# Altium footprint library micro-philips.PCBLIB: 60 footprints (part 4 of 5)
Each footprint in its own frame and in the unit in brackets; x right, y up, seen from the top. Pads: shape width x height; smd on the part's side, far side on the other; paste and mask are expansions set on the pad; w line width, h text height; cw(c..) or ccw(c..) is an arc to the next point about the centre after c.
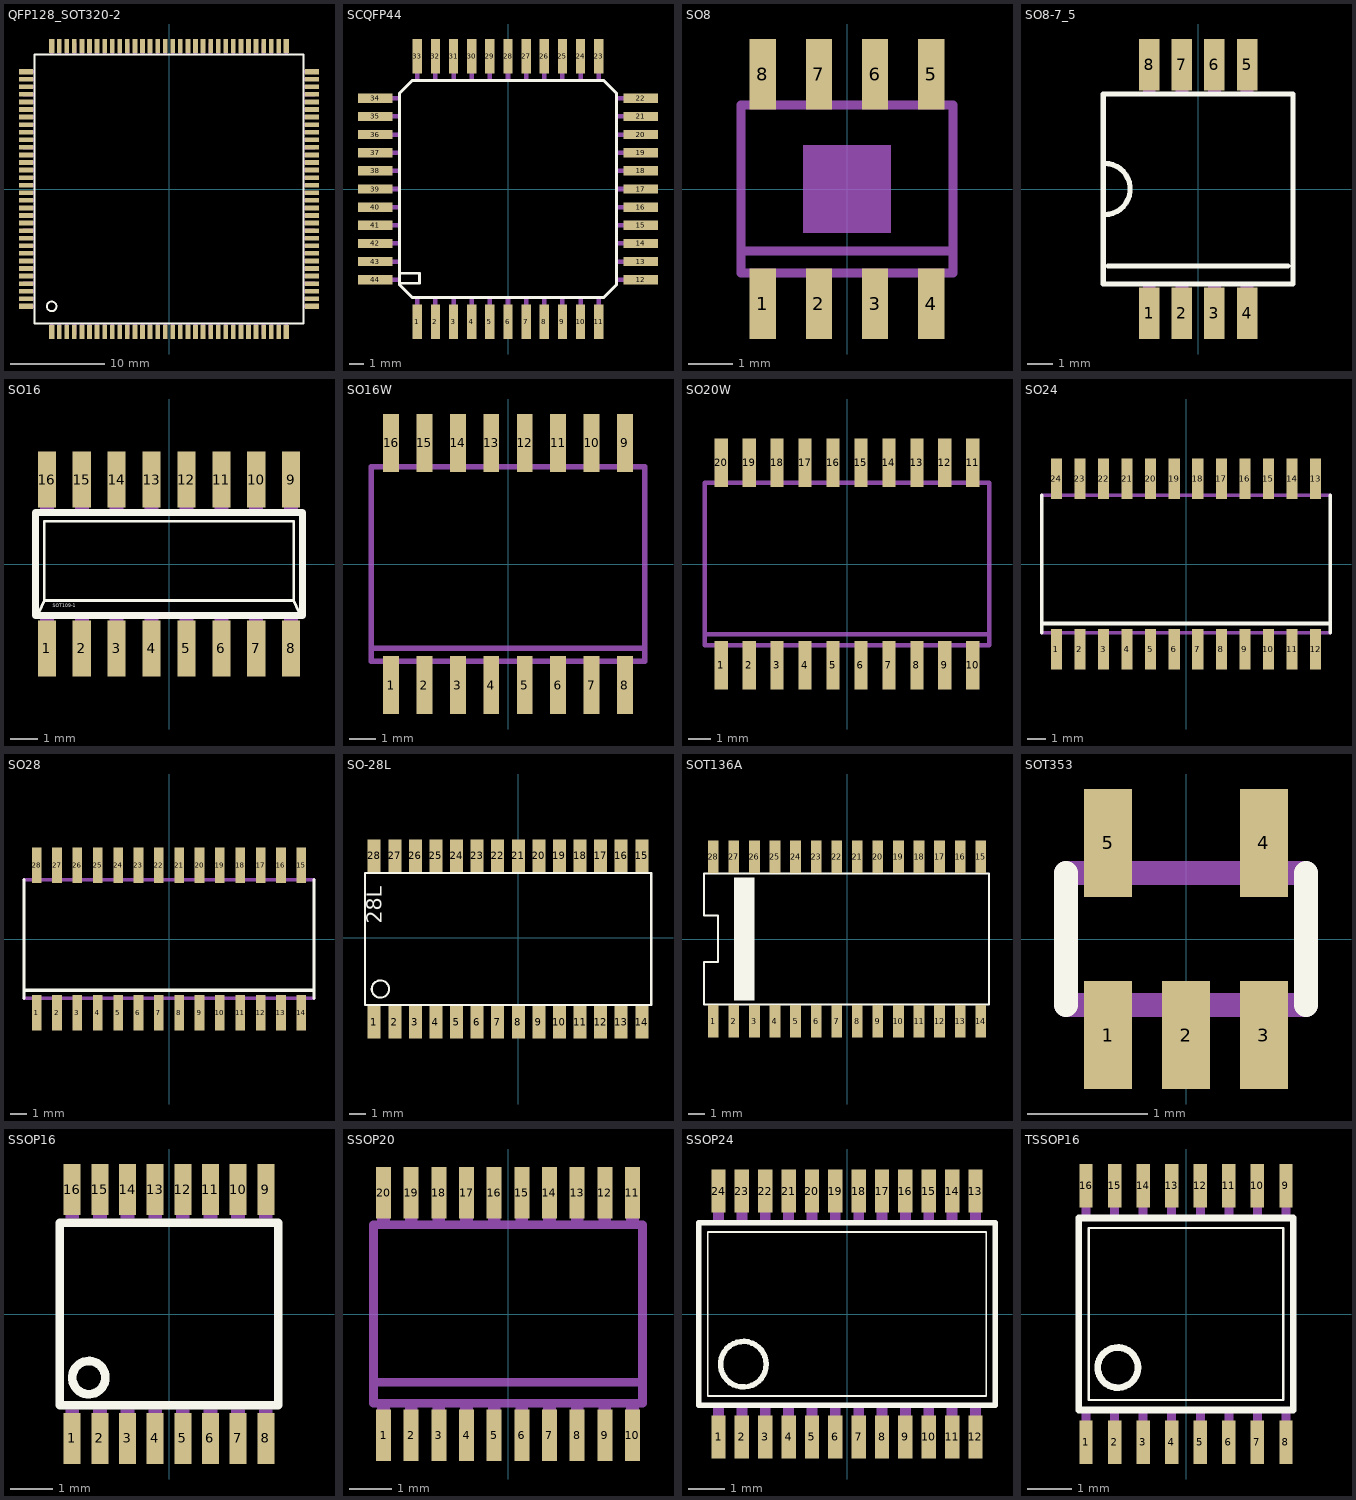
[diagram p3: the footprints below, top view; thin cyan lines are the x and y axes]

## QFP128_SOT320-2 [mm]
pads (128):
  rect 0.6x1.5 smd: 1(-12.4,-15.1) 32(12.4,-15.1) 65(12.4,15.1) 96(-12.4,15.1)
  rect 0.5x1.5 smd: 2(-11.6,-15.1) 3(-10.8,-15.1) 4(-10,-15.1) 5(-9.2,-15.1) 6(-8.4,-15.1) 7(-7.6,-15.1) 8(-6.8,-15.1) 9(-6,-15.1) 10(-5.2,-15.1) 11(-4.4,-15.1) 12(-3.6,-15.1) 13(-2.8,-15.1) 14(-2,-15.1) 15(-1.2,-15.1) 16(-0.4,-15.1) 17(0.4,-15.1) 18(1.2,-15.1) 19(2,-15.1) 20(2.8,-15.1) 21(3.6,-15.1) 22(4.4,-15.1) 23(5.2,-15.1) 24(6,-15.1) 25(6.8,-15.1) 26(7.6,-15.1) 27(8.4,-15.1) 28(9.2,-15.1) 29(10,-15.1) 30(10.8,-15.1) 31(11.6,-15.1) 66(11.6,15.1) 67(10.8,15.1) 68(10,15.1) 69(9.2,15.1) 70(8.4,15.1) 71(7.6,15.1) 72(6.8,15.1) 73(6,15.1) 74(5.2,15.1) 75(4.4,15.1) 76(3.6,15.1) 77(2.8,15.1) 78(2,15.1) 79(1.2,15.1) 80(0.4,15.1) 81(-0.4,15.1) 82(-1.2,15.1) 83(-2,15.1) 84(-2.8,15.1) 85(-3.6,15.1) 86(-4.4,15.1) 87(-5.2,15.1) 88(-6,15.1) 89(-6.8,15.1) 90(-7.6,15.1) 91(-8.4,15.1) 92(-9.2,15.1) 93(-10,15.1) 94(-10.8,15.1) 95(-11.6,15.1)
  rect 1.5x0.6 smd: 33(15.1,-12.4) 64(15.1,12.4) 97(-15.1,12.4) 128(-15.1,-12.4)
  rect 1.5x0.5 smd: 34(15.1,-11.6) 35(15.1,-10.8) 36(15.1,-10) 37(15.1,-9.2) 38(15.1,-8.4) 39(15.1,-7.6) 40(15.1,-6.8) 41(15.1,-6) 42(15.1,-5.2) 43(15.1,-4.4) 44(15.1,-3.6) 45(15.1,-2.8) 46(15.1,-2) 47(15.1,-1.2) 48(15.1,-0.4) 49(15.1,0.4) 50(15.1,1.2) 51(15.1,2) 52(15.1,2.8) 53(15.1,3.6) 54(15.1,4.4) 55(15.1,5.2) 56(15.1,6) 57(15.1,6.8) 58(15.1,7.6) 59(15.1,8.4) 60(15.1,9.2) 61(15.1,10) 62(15.1,10.8) 63(15.1,11.6) 98(-15.1,11.6) 99(-15.1,10.8) 100(-15.1,10) 101(-15.1,9.2) 102(-15.1,8.4) 103(-15.1,7.6) 104(-15.1,6.8) 105(-15.1,6) 106(-15.1,5.2) 107(-15.1,4.4) 108(-15.1,3.6) 109(-15.1,2.8) 110(-15.1,2) 111(-15.1,1.2) 112(-15.1,0.4) 113(-15.1,-0.4) 114(-15.1,-1.2) 115(-15.1,-2) 116(-15.1,-2.8) 117(-15.1,-3.6) 118(-15.1,-4.4) 119(-15.1,-5.2) 120(-15.1,-6) 121(-15.1,-6.8) 122(-15.1,-7.6) 123(-15.1,-8.4) 124(-15.1,-9.2) 125(-15.1,-10) 126(-15.1,-10.8) 127(-15.1,-11.6)
Top Overlay:
  circle w0.203: c-12.4,-12.4 r0.51
  lines w0.203: -14.2,-14.2 14.2,-14.2 14.2,14.2 -14.2,14.2 -14.2,-14.2
Mechanical 16:
  rectangle: -12.6,-15.45 -12.2,-14.25
  rectangle: -11.8,-15.45 -11.4,-14.25
  rectangle: -11,-15.45 -10.6,-14.25
  rectangle: -10.2,-15.45 -9.8,-14.25
  rectangle: -9.4,-15.45 -9,-14.25
  rectangle: -8.6,-15.45 -8.2,-14.25
  rectangle: -7.8,-15.45 -7.4,-14.25
  rectangle: -7,-15.45 -6.6,-14.25
  rectangle: -6.2,-15.45 -5.8,-14.25
  rectangle: -5.4,-15.45 -5,-14.25
  rectangle: -4.6,-15.45 -4.2,-14.25
  rectangle: -3.8,-15.45 -3.4,-14.25
  rectangle: -3,-15.45 -2.6,-14.25
  rectangle: -2.2,-15.45 -1.8,-14.25
  rectangle: -1.4,-15.45 -1,-14.25
  rectangle: -0.6,-15.45 -0.2,-14.25
  rectangle: 0.2,-15.45 0.6,-14.25
  rectangle: 1,-15.45 1.4,-14.25
  rectangle: 1.8,-15.45 2.2,-14.25
  rectangle: 2.6,-15.45 3,-14.25
  rectangle: 3.4,-15.45 3.8,-14.25
  rectangle: 4.2,-15.45 4.6,-14.25
  rectangle: 5,-15.45 5.4,-14.25
  rectangle: 5.8,-15.45 6.2,-14.25
  rectangle: 6.6,-15.45 7,-14.25
  rectangle: 7.4,-15.45 7.8,-14.25
  rectangle: 8.2,-15.45 8.6,-14.25
  rectangle: 9,-15.45 9.4,-14.25
  rectangle: 9.8,-15.45 10.2,-14.25
  rectangle: 10.6,-15.45 11,-14.25
  rectangle: 11.4,-15.45 11.8,-14.25
  rectangle: 12.2,-15.45 12.6,-14.25
  rectangle: 14.25,-12.6 15.45,-12.2
  rectangle: 14.25,-11.8 15.45,-11.4
  rectangle: 14.25,-11 15.45,-10.6
  rectangle: 14.25,-10.2 15.45,-9.8
  rectangle: 14.25,-9.4 15.45,-9
  rectangle: 14.25,-8.6 15.45,-8.2
  rectangle: 14.25,-7.8 15.45,-7.4
  rectangle: 14.25,-7 15.45,-6.6
  rectangle: 14.25,-6.2 15.45,-5.8
  rectangle: 14.25,-5.4 15.45,-5
  rectangle: 14.25,-4.6 15.45,-4.2
  rectangle: 14.25,-3.8 15.45,-3.4
  rectangle: 14.25,-3 15.45,-2.6
  rectangle: 14.25,-2.2 15.45,-1.8
  rectangle: 14.25,-1.4 15.45,-1
  rectangle: 14.25,-0.6 15.45,-0.2
  rectangle: 14.25,0.2 15.45,0.6
  rectangle: 14.25,1 15.45,1.4
  rectangle: 14.25,1.8 15.45,2.2
  rectangle: 14.25,2.6 15.45,3
  rectangle: 14.25,3.4 15.45,3.8
  rectangle: 14.25,4.2 15.45,4.6
  rectangle: 14.25,5 15.45,5.4
  rectangle: 14.25,5.8 15.45,6.2
  rectangle: 14.25,6.6 15.45,7
  rectangle: 14.25,7.4 15.45,7.8
  rectangle: 14.25,8.2 15.45,8.6
  rectangle: 14.25,9 15.45,9.4
  rectangle: 14.25,9.8 15.45,10.2
  rectangle: 14.25,10.6 15.45,11
  rectangle: 14.25,11.4 15.45,11.8
  rectangle: 14.25,12.2 15.45,12.6
  rectangle: 12.2,14.25 12.6,15.45
  rectangle: 11.4,14.25 11.8,15.45
  rectangle: 10.6,14.25 11,15.45
  rectangle: 9.8,14.25 10.2,15.45
  rectangle: 9,14.25 9.4,15.45
  rectangle: 8.2,14.25 8.6,15.45
  rectangle: 7.4,14.25 7.8,15.45
  rectangle: 6.6,14.25 7,15.45
  rectangle: 5.8,14.25 6.2,15.45
  rectangle: 5,14.25 5.4,15.45
  rectangle: 4.2,14.25 4.6,15.45
  rectangle: 3.4,14.25 3.8,15.45
  rectangle: 2.6,14.25 3,15.45
  rectangle: 1.8,14.25 2.2,15.45
  rectangle: 1,14.25 1.4,15.45
  rectangle: 0.2,14.25 0.6,15.45
  rectangle: -0.6,14.25 -0.2,15.45
  rectangle: -1.4,14.25 -1,15.45
  rectangle: -2.2,14.25 -1.8,15.45
  rectangle: -3,14.25 -2.6,15.45
  rectangle: -3.8,14.25 -3.4,15.45
  rectangle: -4.6,14.25 -4.2,15.45
  rectangle: -5.4,14.25 -5,15.45
  rectangle: -6.2,14.25 -5.8,15.45
  rectangle: -7,14.25 -6.6,15.45
  rectangle: -7.8,14.25 -7.4,15.45
  rectangle: -8.6,14.25 -8.2,15.45
  rectangle: -9.4,14.25 -9,15.45
  rectangle: -10.2,14.25 -9.8,15.45
  rectangle: -11,14.25 -10.6,15.45
  rectangle: -11.8,14.25 -11.4,15.45
  rectangle: -12.6,14.25 -12.2,15.45
  rectangle: -15.45,12.2 -14.25,12.6
  rectangle: -15.45,11.4 -14.25,11.8
  rectangle: -15.45,10.6 -14.25,11
  rectangle: -15.45,9.8 -14.25,10.2
  rectangle: -15.45,9 -14.25,9.4
  rectangle: -15.45,8.2 -14.25,8.6
  rectangle: -15.45,7.4 -14.25,7.8
  rectangle: -15.45,6.6 -14.25,7
  rectangle: -15.45,5.8 -14.25,6.2
  rectangle: -15.45,5 -14.25,5.4
  rectangle: -15.45,4.2 -14.25,4.6
  rectangle: -15.45,3.4 -14.25,3.8
  rectangle: -15.45,2.6 -14.25,3
  rectangle: -15.45,1.8 -14.25,2.2
  rectangle: -15.45,1 -14.25,1.4
  rectangle: -15.45,0.2 -14.25,0.6
  rectangle: -15.45,-0.6 -14.25,-0.2
  rectangle: -15.45,-1.4 -14.25,-1
  rectangle: -15.45,-2.2 -14.25,-1.8
  rectangle: -15.45,-3 -14.25,-2.6
  rectangle: -15.45,-3.8 -14.25,-3.4
  rectangle: -15.45,-4.6 -14.25,-4.2
  rectangle: -15.45,-5.4 -14.25,-5
  rectangle: -15.45,-6.2 -14.25,-5.8
  rectangle: -15.45,-7 -14.25,-6.6
  rectangle: -15.45,-7.8 -14.25,-7.4
  rectangle: -15.45,-8.6 -14.25,-8.2
  rectangle: -15.45,-9.4 -14.25,-9
  rectangle: -15.45,-10.2 -14.25,-9.8
  rectangle: -15.45,-11 -14.25,-10.6
  rectangle: -15.45,-11.8 -14.25,-11.4
  rectangle: -15.45,-12.6 -14.25,-12.2

## SCQFP44 [mm]
pads (44):
  rect 0.65x2.4 smd: 1(-6.35,-9.3) 2(-5.08,-9.3) 3(-3.81,-9.3) 4(-2.54,-9.3) 5(-1.27,-9.3) 6(0,-9.3) 7(1.27,-9.3) 8(2.54,-9.3) 9(3.81,-9.3) 10(5.08,-9.3) 11(6.35,-9.3) 23(6.35,9.3) 24(5.08,9.3) 25(3.81,9.3) 26(2.54,9.3) 27(1.27,9.3) 28(0,9.3) 29(-1.27,9.3) 30(-2.54,9.3) 31(-3.81,9.3) 32(-5.08,9.3) 33(-6.35,9.3)
  rect 2.4x0.65 smd: 12(9.3,-6.35) 13(9.3,-5.08) 14(9.3,-3.81) 15(9.3,-2.54) 16(9.3,-1.27) 17(9.3,0) 18(9.3,1.27) 19(9.3,2.54) 20(9.3,3.81) 21(9.3,5.08) 22(9.3,6.35) 34(-9.3,6.35) 35(-9.3,5.08) 36(-9.3,3.81) 37(-9.3,2.54) 38(-9.3,1.27) 39(-9.3,0) 40(-9.3,-1.27) 41(-9.3,-2.54) 42(-9.3,-3.81) 43(-9.3,-5.08) 44(-9.3,-6.35)
Top Overlay:
  lines w0.203: -7.5,-5.9 -6.2,-5.9 -6.2,-6.6 -7.6,-6.6 ; -7.6,-6.6 -7.6,6.7 -6.7,7.6 6.7,7.6 7.6,6.7 7.6,-6.7 6.7,-7.6 -6.7,-7.6 -7.6,-6.7 -7.6,-6.6
Mechanical 16:
  rectangle: -6.51,-10.1 -6.19,-7.6
  rectangle: -5.24,-10.1 -4.92,-7.6
  rectangle: -3.97,-10.1 -3.65,-7.6
  rectangle: -2.7,-10.1 -2.38,-7.6
  rectangle: -1.43,-10.1 -1.11,-7.6
  rectangle: -0.16,-10.1 0.16,-7.6
  rectangle: 1.11,-10.1 1.43,-7.6
  rectangle: 2.38,-10.1 2.7,-7.6
  rectangle: 3.65,-10.1 3.97,-7.6
  rectangle: 4.92,-10.1 5.24,-7.6
  rectangle: 6.19,-10.1 6.51,-7.6
  rectangle: 7.6,-6.51 10.1,-6.19
  rectangle: 7.6,-5.24 10.1,-4.92
  rectangle: 7.6,-3.97 10.1,-3.65
  rectangle: 7.6,-2.7 10.1,-2.38
  rectangle: 7.6,-1.43 10.1,-1.11
  rectangle: 7.6,-0.16 10.1,0.16
  rectangle: 7.6,1.11 10.1,1.43
  rectangle: 7.6,2.38 10.1,2.7
  rectangle: 7.6,3.65 10.1,3.97
  rectangle: 7.6,4.92 10.1,5.24
  rectangle: 7.6,6.19 10.1,6.51
  rectangle: 6.19,7.6 6.51,10.1
  rectangle: 4.92,7.6 5.24,10.1
  rectangle: 3.65,7.6 3.97,10.1
  rectangle: 2.38,7.6 2.7,10.1
  rectangle: 1.11,7.6 1.43,10.1
  rectangle: -0.16,7.6 0.16,10.1
  rectangle: -1.43,7.6 -1.11,10.1
  rectangle: -2.7,7.6 -2.38,10.1
  rectangle: -3.97,7.6 -3.65,10.1
  rectangle: -5.24,7.6 -4.92,10.1
  rectangle: -6.51,7.6 -6.19,10.1
  rectangle: -10.1,6.19 -7.6,6.51
  rectangle: -10.1,4.92 -7.6,5.24
  rectangle: -10.1,3.65 -7.6,3.97
  rectangle: -10.1,2.38 -7.6,2.7
  rectangle: -10.1,1.11 -7.6,1.43
  rectangle: -10.1,-0.16 -7.6,0.16
  rectangle: -10.1,-1.43 -7.6,-1.11
  rectangle: -10.1,-2.7 -7.6,-2.38
  rectangle: -10.1,-3.97 -7.6,-3.65
  rectangle: -10.1,-5.24 -7.6,-4.92
  rectangle: -10.1,-6.51 -7.6,-6.19

## SO8 [mm]
pads (8):
  rect 0.6x1.6 smd: 1(-1.905,-2.6) 2(-0.635,-2.6) 3(0.635,-2.6) 4(1.905,-2.6) 5(1.905,2.6) 6(0.635,2.6) 7(-0.635,2.6) 8(-1.905,2.6)
Mechanical 6:
  rectangle: -1,-1 1,1
Mechanical 16:
  rectangle: -2.15,-3.1 -1.66,-2
  rectangle: -0.88,-3.1 -0.39,-2
  rectangle: 0.39,-3.1 0.88,-2
  rectangle: 1.66,-3.1 2.15,-2
  rectangle: 1.66,2 2.15,3.1
  rectangle: 0.39,2 0.88,3.1
  rectangle: -0.88,2 -0.39,3.1
  rectangle: -2.15,2 -1.66,3.1
  lines w0.203: -2.4,-1.4 -2.4,-1.9 2.4,-1.9 2.4,-1.4 ; -2.4,-1.4 -2.4,1.9 2.4,1.9 2.4,-1.4 ; -2.4,-1.4 2.4,-1.4

## SO8-7_5 [mm]
pads (8):
  rect 0.8x2 smd: 1(-1.905,-4.845) 2(-0.635,-4.845) 3(0.635,-4.845) 4(1.905,-4.845) 5(1.905,4.845) 6(0.635,4.845) 7(-0.635,4.845) 8(-1.905,4.845)
Top Overlay:
  lines w0.203: -3.648,-1 ccw(c-3.648,0) -3.648,1 ; -3.5,-3 3.5,-3 ; -3.7,-3.7 3.7,-3.7 3.7,3.7 -3.7,3.7 -3.7,-3.7
Mechanical 16:
  rectangle: -2.155,-5.3 -1.655,-3.75
  rectangle: -0.885,-5.3 -0.385,-3.75
  rectangle: 0.385,-5.3 0.885,-3.75
  rectangle: 1.655,-5.3 2.155,-3.75
  rectangle: 1.655,3.75 2.155,5.3
  rectangle: 0.385,3.75 0.885,5.3
  rectangle: -0.885,3.75 -0.385,5.3
  rectangle: -2.155,3.75 -1.655,5.3

## SO16 [mil]
pads (16):
  rect 26x80 smd: 1(-175,-121) 2(-125,-121) 3(-75,-121) 4(-25,-121) 5(25,-121) 6(75,-121) 7(125,-121) 8(175,-121) 9(175,121) 10(125,121) 11(75,121) 12(25,121) 13(-25,121) 14(-75,121) 15(-125,121) 16(-175,121)
Top Overlay:
  lines w4: -186.25,-68.75 -178.75,-52.5 ; 186.25,-68.75 178.75,-52.5 ; -178.75,-52.5 -178.75,61.25 178.75,61.25 178.75,-52.5 ; -178.75,-52.5 178.75,-52.5
  lines w10: -191.25,-73.75 191.25,-73.75 191.25,73.75 -191.25,73.75 -191.25,-73.75
  text "SOT109-1" at -166.34,-63.98 h7.75
Mechanical 16:
  rectangle: -35,77 -15,122
  rectangle: -185,-122 -165,-77
  rectangle: -135,-122 -115,-77
  rectangle: -85,-121 -65,-76
  rectangle: -35,-122 -15,-77
  rectangle: -85,77 -65,122
  rectangle: -135,77 -115,122
  rectangle: -185,77 -165,122
  rectangle: 15,-122 35,-77
  rectangle: 65,-122 85,-77
  rectangle: 115,-122 135,-77
  rectangle: 165,-122 185,-77
  rectangle: 15,77 35,122
  rectangle: 65,77 85,122
  rectangle: 115,77 135,122
  rectangle: 165,77 185,122

## SO16W [mm]
pads (16):
  rect 0.6x2.2 smd: 1(-4.445,-4.6) 2(-3.175,-4.6) 3(-1.905,-4.6) 4(-0.635,-4.6) 5(0.635,-4.6) 6(1.905,-4.6) 7(3.175,-4.6) 8(4.445,-4.6) 9(4.445,4.6) 10(3.175,4.6) 11(1.905,4.6) 12(0.635,4.6) 13(-0.635,4.6) 14(-1.905,4.6) 15(-3.175,4.6) 16(-4.445,4.6)
Mechanical 16:
  rectangle: -4.69,-5.32 -4.2,-3.8
  rectangle: -3.42,-5.32 -2.93,-3.8
  rectangle: -2.15,-5.32 -1.66,-3.8
  rectangle: -0.88,-5.32 -0.39,-3.8
  rectangle: 0.39,-5.32 0.88,-3.8
  rectangle: 1.66,-5.32 2.15,-3.8
  rectangle: 2.93,-5.32 3.42,-3.8
  rectangle: 4.2,-5.32 4.69,-3.8
  rectangle: 4.2,3.8 4.69,5.32
  rectangle: 2.93,3.8 3.42,5.32
  rectangle: 1.66,3.8 2.15,5.32
  rectangle: 0.39,3.8 0.88,5.32
  rectangle: -0.88,3.8 -0.39,5.32
  rectangle: -2.15,3.8 -1.66,5.32
  rectangle: -3.42,3.8 -2.93,5.32
  rectangle: -4.69,3.8 -4.2,5.32
  lines w0.203: -5.19,-3.2 -5.19,-3.7 5.19,-3.7 5.19,-3.2 ; -5.19,-3.2 -5.19,3.7 5.19,3.7 5.19,-3.2 ; -5.19,-3.2 5.19,-3.2

## SO20W [mm]
pads (20):
  rect 0.6x2.2 smd: 1(-5.715,-4.6) 2(-4.445,-4.6) 3(-3.175,-4.6) 4(-1.905,-4.6) 5(-0.635,-4.6) 6(0.635,-4.6) 7(1.905,-4.6) 8(3.175,-4.6) 9(4.445,-4.6) 10(5.715,-4.6) 11(5.715,4.6) 12(4.445,4.6) 13(3.175,4.6) 14(1.905,4.6) 15(0.635,4.6) 16(-0.635,4.6) 17(-1.905,4.6) 18(-3.175,4.6) 19(-4.445,4.6) 20(-5.715,4.6)
Mechanical 16:
  rectangle: -5.96,-5.32 -5.47,-3.8
  rectangle: -4.69,-5.32 -4.2,-3.8
  rectangle: -3.42,-5.32 -2.93,-3.8
  rectangle: -2.15,-5.32 -1.66,-3.8
  rectangle: -0.88,-5.32 -0.39,-3.8
  rectangle: 0.39,-5.32 0.88,-3.8
  rectangle: 1.66,-5.32 2.15,-3.8
  rectangle: 2.93,-5.32 3.42,-3.8
  rectangle: 4.2,-5.32 4.69,-3.8
  rectangle: 5.47,-5.32 5.96,-3.8
  rectangle: 5.47,3.8 5.96,5.32
  rectangle: 4.2,3.8 4.69,5.32
  rectangle: 2.93,3.8 3.42,5.32
  rectangle: 1.66,3.8 2.15,5.32
  rectangle: 0.39,3.8 0.88,5.32
  rectangle: -0.88,3.8 -0.39,5.32
  rectangle: -2.15,3.8 -1.66,5.32
  rectangle: -3.42,3.8 -2.93,5.32
  rectangle: -4.69,3.8 -4.2,5.32
  rectangle: -5.96,3.8 -5.47,5.32
  lines w0.203: -6.46,-3.2 -6.46,-3.7 6.46,-3.7 6.46,-3.2 ; -6.46,-3.2 -6.46,3.7 6.46,3.7 6.46,-3.2 ; -6.46,-3.2 6.46,-3.2

## SO24 [mm]
pads (24):
  rect 0.6x2.2 smd: 1(-6.985,-4.6) 2(-5.715,-4.6) 3(-4.445,-4.6) 4(-3.175,-4.6) 5(-1.905,-4.6) 6(-0.635,-4.6) 7(0.635,-4.6) 8(1.905,-4.6) 9(3.175,-4.6) 10(4.445,-4.6) 11(5.715,-4.6) 12(6.985,-4.6) 13(6.985,4.6) 14(5.715,4.6) 15(4.445,4.6) 16(3.175,4.6) 17(1.905,4.6) 18(0.635,4.6) 19(-0.635,4.6) 20(-1.905,4.6) 21(-3.175,4.6) 22(-4.445,4.6) 23(-5.715,4.6) 24(-6.985,4.6)
Top Overlay:
  lines w0.203: -7.78,-3.7 -7.78,-3.2 ; -7.78,3.7 -7.78,-3.2 ; 7.78,-3.7 7.78,-3.2 ; 7.78,3.7 7.78,-3.2 ; -7.78,-3.2 7.78,-3.2
Mechanical 16:
  rectangle: -7.23,-5.32 -6.74,-3.8
  rectangle: -5.96,-5.32 -5.47,-3.8
  rectangle: -4.69,-5.32 -4.2,-3.8
  rectangle: -3.42,-5.32 -2.93,-3.8
  rectangle: -2.15,-5.32 -1.66,-3.8
  rectangle: -0.88,-5.32 -0.39,-3.8
  rectangle: 0.39,-5.32 0.88,-3.8
  rectangle: 1.66,-5.32 2.15,-3.8
  rectangle: 2.93,-5.32 3.42,-3.8
  rectangle: 4.2,-5.32 4.69,-3.8
  rectangle: 5.47,-5.32 5.96,-3.8
  rectangle: 6.74,-5.32 7.23,-3.8
  rectangle: 6.74,3.8 7.23,5.32
  rectangle: 5.47,3.8 5.96,5.32
  rectangle: 4.2,3.8 4.69,5.32
  rectangle: 2.93,3.8 3.42,5.32
  rectangle: 1.66,3.8 2.15,5.32
  rectangle: 0.39,3.8 0.88,5.32
  rectangle: -0.88,3.8 -0.39,5.32
  rectangle: -2.15,3.8 -1.66,5.32
  rectangle: -3.42,3.8 -2.93,5.32
  rectangle: -4.69,3.8 -4.2,5.32
  rectangle: -5.96,3.8 -5.47,5.32
  rectangle: -7.23,3.8 -6.74,5.32
  lines w0.203: -7.78,-3.7 7.78,-3.7 ; -7.78,3.7 7.78,3.7

## SO28 [mm]
pads (28):
  rect 0.6x2.2 smd: 1(-8.255,-4.6) 2(-6.985,-4.6) 3(-5.715,-4.6) 4(-4.445,-4.6) 5(-3.175,-4.6) 6(-1.905,-4.6) 7(-0.635,-4.6) 8(0.635,-4.6) 9(1.905,-4.6) 10(3.175,-4.6) 11(4.445,-4.6) 12(5.715,-4.6) 13(6.985,-4.6) 14(8.255,-4.6) 15(8.255,4.6) 16(6.985,4.6) 17(5.715,4.6) 18(4.445,4.6) 19(3.175,4.6) 20(1.905,4.6) 21(0.635,4.6) 22(-0.635,4.6) 23(-1.905,4.6) 24(-3.175,4.6) 25(-4.445,4.6) 26(-5.715,4.6) 27(-6.985,4.6) 28(-8.255,4.6)
Top Overlay:
  lines w0.203: -9.05,-3.7 -9.05,-3.2 ; -9.05,3.7 -9.05,-3.2 ; 9.05,-3.7 9.05,-3.2 ; 9.05,3.7 9.05,-3.2 ; -9.05,-3.2 9.05,-3.2
Mechanical 16:
  rectangle: -8.5,-5.32 -8.01,-3.8
  rectangle: -7.23,-5.32 -6.74,-3.8
  rectangle: -5.96,-5.32 -5.47,-3.8
  rectangle: -4.69,-5.32 -4.2,-3.8
  rectangle: -3.42,-5.32 -2.93,-3.8
  rectangle: -2.15,-5.32 -1.66,-3.8
  rectangle: -0.88,-5.32 -0.39,-3.8
  rectangle: 0.39,-5.32 0.88,-3.8
  rectangle: 1.66,-5.32 2.15,-3.8
  rectangle: 2.93,-5.32 3.42,-3.8
  rectangle: 4.2,-5.32 4.69,-3.8
  rectangle: 5.47,-5.32 5.96,-3.8
  rectangle: 6.74,-5.32 7.23,-3.8
  rectangle: 8.01,-5.32 8.5,-3.8
  rectangle: 8.01,3.8 8.5,5.32
  rectangle: 6.74,3.8 7.23,5.32
  rectangle: 5.47,3.8 5.96,5.32
  rectangle: 4.2,3.8 4.69,5.32
  rectangle: 2.93,3.8 3.42,5.32
  rectangle: 1.66,3.8 2.15,5.32
  rectangle: 0.39,3.8 0.88,5.32
  rectangle: -0.88,3.8 -0.39,5.32
  rectangle: -2.15,3.8 -1.66,5.32
  rectangle: -3.42,3.8 -2.93,5.32
  rectangle: -4.69,3.8 -4.2,5.32
  rectangle: -5.96,3.8 -5.47,5.32
  rectangle: -7.23,3.8 -6.74,5.32
  rectangle: -8.5,3.8 -8.01,5.32
  lines w0.203: -9.05,-3.7 9.05,-3.7 ; -9.05,3.7 9.05,3.7

## SO-28L [mil]
pads (28):
  rect 31.5x78.74 smd: 1(-350,-205) 2(-300,-205) 3(-250,-205) 4(-200,-205) 5(-150,-205) 6(-100,-205) 7(-50,-205) 8(0,-205) 9(50,-205) 10(100,-205) 11(150,-205) 12(200,-205) 13(250,-205) 14(300,-205) 15(300,200) 16(250,200) 17(200,200) 18(150,200) 19(100,200) 20(50,200) 21(0,200) 22(-50,200) 23(-100,200) 24(-150,200) 25(-200,200) 26(-250,200) 27(-300,200) 28(-350,200)
Top Overlay:
  circle w5: c-335,-124 r21
  lines w5: -372,-163 323,-163 323,158 -372,158 -372,-163
  text "28L" at -320,35 h62
Mechanical 16:
  rectangle: -360,-224 -340,-164
  rectangle: -310,-224 -290,-164
  rectangle: -260,-224 -240,-164
  rectangle: -210,-224 -190,-164
  rectangle: -160,-224 -140,-164
  rectangle: -110,-224 -90,-164
  rectangle: -60,-224 -40,-164
  rectangle: -10,-224 10,-164
  rectangle: 40,-224 60,-164
  rectangle: 90,-224 110,-164
  rectangle: 140,-224 160,-164
  rectangle: 190,-224 210,-164
  rectangle: 240,-224 260,-164
  rectangle: 290,-224 310,-164
  rectangle: 290,159 310,219
  rectangle: 240,159 260,219
  rectangle: 190,159 210,219
  rectangle: 140,159 160,219
  rectangle: 90,159 110,219
  rectangle: 40,159 60,219
  rectangle: -10,159 10,219
  rectangle: -60,159 -40,219
  rectangle: -110,159 -90,219
  rectangle: -160,159 -140,219
  rectangle: -210,159 -190,219
  rectangle: -260,159 -240,219
  rectangle: -310,159 -290,219
  rectangle: -360,159 -340,219

## SOT136A [mil]
pads (28):
  rect 26x79 smd: 1(-325,-200) 2(-275,-200) 3(-225,-200) 4(-175,-200) 5(-125,-200) 6(-75,-200) 7(-25,-200) 8(25,-200) 9(75,-200) 10(125,-200) 11(175,-200) 12(225,-200) 13(275,-200) 14(325,-200) 15(325,200) 16(275,200) 17(225,200) 18(175,200) 19(125,200) 20(75,200) 21(25,200) 22(-25,200) 23(-75,200) 24(-125,200) 25(-175,200) 26(-225,200) 27(-275,200) 28(-325,200)
Top Overlay:
  rectangle: -335,-220 -315,-160
  rectangle: -285,-220 -265,-160
  rectangle: -235,-220 -215,-160
  rectangle: -185,-220 -165,-160
  rectangle: -135,-220 -115,-160
  rectangle: -85,-220 -65,-160
  rectangle: -35,-220 -15,-160
  rectangle: 15,-220 35,-160
  rectangle: 65,-220 85,-160
  rectangle: 115,-220 135,-160
  rectangle: 165,-220 185,-160
  rectangle: 215,-220 235,-160
  rectangle: 265,-220 285,-160
  rectangle: 315,-220 335,-160
  rectangle: 315,160 335,220
  rectangle: 265,160 285,220
  rectangle: 215,160 235,220
  rectangle: 165,160 185,220
  rectangle: 115,160 135,220
  rectangle: 65,160 85,220
  rectangle: 15,160 35,220
  rectangle: -35,160 -15,220
  rectangle: -85,160 -65,220
  rectangle: -135,160 -115,220
  rectangle: -185,160 -165,220
  rectangle: -235,160 -215,220
  rectangle: -285,160 -265,220
  rectangle: -335,160 -315,220
  rectangle: -275,-150 -225,150
  lines w5: -347,-159 345,-159 345,159 -347,159 -347,57 -313,57 -313,-56 -347,-56 -347,-159

## SOT353 [mil]
pads (5):
  rect 15.75x35.43 smd: 1(-25.59,-31.5) 2(0,-31.5) 3(25.59,-31.5) 4(25.59,31.5) 5(-25.59,31.5)
Top Overlay:
  lines w8: -39.37,-21.65 -39.37,21.65 ; 39.37,-21.65 39.37,21.65
Mechanical 16:
  rectangle: -5.91,-43.31 5.91,-25.59
  rectangle: -31.5,-43.31 -19.69,-25.59
  rectangle: 19.69,-43.31 31.5,-25.59
  rectangle: 19.69,25.59 31.5,43.31
  rectangle: -31.5,25.59 -19.69,43.31
  lines w8: -39.37,-21.65 39.37,-21.65 ; -39.37,21.65 39.37,21.65

## SSOP16 [mm]
pads (16):
  rect 0.4x1.2 smd: 1(-2.275,-2.925) 2(-1.625,-2.925) 3(-0.975,-2.925) 4(-0.325,-2.925) 5(0.325,-2.925) 6(0.975,-2.925) 7(1.625,-2.925) 8(2.275,-2.925) 9(2.275,2.925) 10(1.625,2.925) 11(0.975,2.925) 12(0.325,2.925) 13(-0.325,2.925) 14(-0.975,2.925) 15(-1.625,2.925) 16(-2.275,2.925)
Top Overlay:
  circle w0.203: c-1.885,-1.495 r0.39
  lines w0.203: -2.568,-2.145 2.568,-2.145 2.568,2.145 -2.568,2.145 -2.568,-2.145
Mechanical 16:
  rectangle: -2.437,-3.315 -2.113,-2.243
  rectangle: -1.787,-3.315 -1.463,-2.243
  rectangle: -1.137,-3.315 -0.813,-2.243
  rectangle: -0.487,-3.315 -0.163,-2.243
  rectangle: 0.163,-3.315 0.487,-2.243
  rectangle: 0.813,-3.315 1.137,-2.243
  rectangle: 1.463,-3.315 1.787,-2.243
  rectangle: 2.113,-3.315 2.437,-2.243
  rectangle: 2.113,2.243 2.437,3.315
  rectangle: 1.463,2.243 1.787,3.315
  rectangle: 0.813,2.243 1.137,3.315
  rectangle: 0.163,2.243 0.487,3.315
  rectangle: -0.487,2.243 -0.163,3.315
  rectangle: -1.137,2.243 -0.813,3.315
  rectangle: -1.787,2.243 -1.463,3.315
  rectangle: -2.437,2.243 -2.113,3.315

## SSOP20 [mm]
pads (20):
  rect 0.35x1.2 smd: 1(-2.925,-2.85) 2(-2.275,-2.85) 3(-1.625,-2.85) 4(-0.975,-2.85) 5(-0.325,-2.85) 6(0.325,-2.85) 7(0.975,-2.85) 8(1.625,-2.85) 9(2.275,-2.85) 10(2.925,-2.85) 11(2.925,2.85) 12(2.275,2.85) 13(1.625,2.85) 14(0.975,2.85) 15(0.325,2.85) 16(-0.325,2.85) 17(-0.975,2.85) 18(-1.625,2.85) 19(-2.275,2.85) 20(-2.925,2.85)
Mechanical 16:
  rectangle: -3.075,-3.3 -2.775,-2.2
  rectangle: -2.425,-3.3 -2.125,-2.2
  rectangle: -1.775,-3.3 -1.475,-2.2
  rectangle: -1.125,-3.3 -0.825,-2.2
  rectangle: -0.475,-3.3 -0.175,-2.2
  rectangle: 0.175,-3.3 0.475,-2.2
  rectangle: 0.825,-3.3 1.125,-2.2
  rectangle: 1.475,-3.3 1.775,-2.2
  rectangle: 2.125,-3.3 2.425,-2.2
  rectangle: 2.775,-3.3 3.075,-2.2
  region: 3.075,3.3 2.775,3.3 2.775,2.2 3.075,2.2
  region: 2.425,3.3 2.125,3.3 2.125,2.2 2.425,2.2
  region: 1.775,3.3 1.475,3.3 1.475,2.2 1.775,2.2
  region: 1.125,3.3 0.825,3.3 0.825,2.2 1.125,2.2
  region: 0.475,3.3 0.175,3.3 0.175,2.2 0.475,2.2
  region: -0.175,3.3 -0.475,3.3 -0.475,2.2 -0.175,2.2
  region: -0.825,3.3 -1.125,3.3 -1.125,2.2 -0.825,2.2
  region: -1.475,3.3 -1.775,3.3 -1.775,2.2 -1.475,2.2
  region: -2.125,3.3 -2.425,3.3 -2.425,2.2 -2.125,2.2
  region: -2.775,3.3 -3.075,3.3 -3.075,2.2 -2.775,2.2
  lines w0.203: -3.16,-1.6 -3.16,-2.1 3.16,-2.1 3.16,-1.6 ; -3.16,-1.6 -3.16,2.1 3.16,2.1 3.16,-1.6 ; -3.16,-1.6 3.16,-1.6

## SSOP24 [mm]
pads (24):
  rect 0.4x1.2 smd: 1(-3.575,-3.42) 2(-2.925,-3.42) 3(-2.275,-3.42) 4(-1.625,-3.42) 5(-0.975,-3.42) 6(-0.325,-3.42) 7(0.325,-3.42) 8(0.975,-3.42) 9(1.625,-3.42) 10(2.275,-3.42) 11(2.925,-3.42) 12(3.575,-3.42) 13(3.575,3.42) 14(2.925,3.42) 15(2.275,3.42) 16(1.625,3.42) 17(0.975,3.42) 18(0.325,3.42) 19(-0.325,3.42) 20(-0.975,3.42) 21(-1.625,3.42) 22(-2.275,3.42) 23(-2.925,3.42) 24(-3.575,3.42)
Top Overlay:
  circle w0.152: c-2.883,-1.397 r0.635
  lines w0.051: -3.874,-2.286 3.874,-2.286 3.874,2.286 -3.874,2.286 -3.874,-2.286
  lines w0.152: -4.128,-2.536 4.128,-2.536 4.128,2.536 -4.128,2.536 -4.128,-2.536
Mechanical 16:
  rectangle: -3.725,-3.8 -3.425,-2.6
  rectangle: -3.075,-3.8 -2.775,-2.6
  rectangle: -2.425,-3.8 -2.125,-2.6
  rectangle: -1.775,-3.8 -1.475,-2.6
  rectangle: -1.125,-3.8 -0.825,-2.6
  rectangle: -0.475,-3.8 -0.175,-2.6
  rectangle: 0.175,-3.8 0.475,-2.6
  rectangle: 0.825,-3.8 1.125,-2.6
  rectangle: 1.475,-3.8 1.775,-2.6
  rectangle: 2.125,-3.8 2.425,-2.6
  rectangle: 2.775,-3.8 3.075,-2.6
  rectangle: 3.425,-3.8 3.725,-2.6
  rectangle: 3.425,2.6 3.725,3.8
  rectangle: 2.775,2.6 3.075,3.8
  rectangle: 2.125,2.6 2.425,3.8
  rectangle: 1.475,2.6 1.775,3.8
  rectangle: 0.825,2.6 1.125,3.8
  rectangle: 0.175,2.6 0.475,3.8
  rectangle: -0.475,2.6 -0.175,3.8
  rectangle: -1.125,2.6 -0.825,3.8
  rectangle: -1.775,2.6 -1.475,3.8
  rectangle: -2.425,2.6 -2.125,3.8
  rectangle: -3.075,2.6 -2.775,3.8
  rectangle: -3.725,2.6 -3.425,3.8

## TSSOP16 [mil]
pads (16):
  rect 12x39 smd: 1(-89.57,-114.87) 2(-63.98,-114.87) 3(-38.39,-114.87) 4(-12.8,-114.87) 5(12.8,-114.87) 6(38.39,-114.87) 7(63.98,-114.87) 8(89.57,-114.87) 9(89.57,114.87) 10(63.98,114.87) 11(38.39,114.87) 12(12.8,114.87) 13(-12.8,114.87) 14(-38.39,114.87) 15(-63.98,114.87) 16(-89.57,114.87)
Top Overlay:
  circle w6: c-61.05,-48 r18
  lines w2: -87.05,-76.94 87.05,-76.94 87.05,76.94 -87.05,76.94 -87.05,-76.94
  lines w6: -96.05,-85.94 96.05,-85.94 96.05,85.94 -96.05,85.94 -96.05,-85.94
Mechanical 16:
  rectangle: -93.57,-129.92 -85.57,-85.94
  rectangle: -67.98,-129.92 -59.98,-85.94
  rectangle: -42.39,-129.92 -34.39,-85.94
  rectangle: -16.8,-129.92 -8.8,-85.94
  rectangle: 8.8,-129.92 16.8,-85.94
  rectangle: 34.39,-129.92 42.39,-85.94
  rectangle: 59.98,-129.92 67.98,-85.94
  rectangle: 85.57,-129.92 93.57,-85.94
  region: 93.57,129.92 85.57,129.92 85.57,85.94 93.57,85.94
  region: 67.98,129.92 59.98,129.92 59.98,85.94 67.98,85.94
  region: 42.39,129.92 34.39,129.92 34.39,85.94 42.39,85.94
  region: 16.8,129.92 8.8,129.92 8.8,85.94 16.8,85.94
  rectangle: -16.8,85.94 -8.8,129.92
  rectangle: -42.39,85.94 -34.39,129.92
  rectangle: -67.98,85.94 -59.98,129.92
  rectangle: -93.57,85.94 -85.57,129.92